# Altium schematic symbol library magnetic_buzzer.SchLib: 1 symbol
Pins are listed as number, name and electrical type; pins without a type are passive.

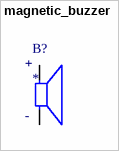
[diagram p0: symbol magnetic_buzzer]

## magnetic_buzzer
designator B?
Value: *
pins: N, P
text: +; -